# Altium footprint library VGA-Module-PCB-LIB.PcbLib: 25 footprints (part 2 of 2)
Each footprint in its own frame and in the unit in brackets; x right, y up, seen from the top. Pads: shape width x height; smd on the part's side, far side on the other; paste and mask are expansions set on the pad; w line width, h text height; cw(c..) or ccw(c..) is an arc to the next point about the centre after c.
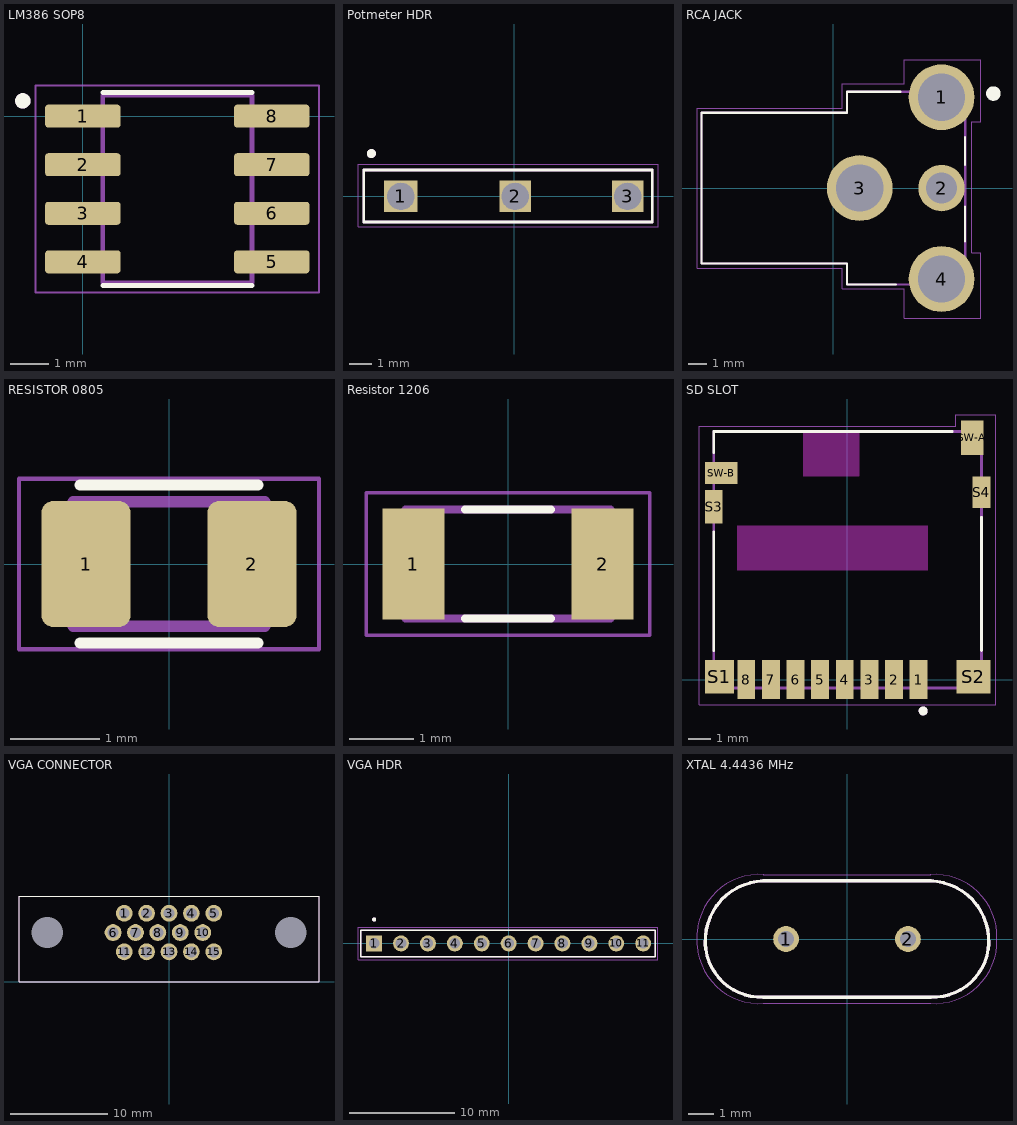
[diagram p1: the footprints below, top view; thin cyan lines are the x and y axes]

## LM386 SOP8 [mm] "LM368 SOP8 package"
pads (8):
  rrect25% 1.97x0.6 smd: 1(0,0) 2(0,-1.27) 3(0,-2.54) 4(0,-3.81) 5(4.94,-3.81) 6(4.94,-2.54) 7(4.94,-1.27) 8(4.94,0)
Top Overlay:
  circle w0.2: c-1.57,0.4 r0.1
  lines w0.127: 0.52,-4.43 4.42,-4.43 ; 0.52,0.62 4.42,0.62
Mechanical 13:
  circle w0.2: c-1.57,0.4 r0.1
  lines w0.127: 0.52,-4.357 4.42,-4.357 4.42,0.547 0.52,0.547 0.52,-4.357
Mechanical 15:
  lines w0.05: -1.235,-4.607 6.175,-4.607 6.175,0.797 -1.235,0.797 -1.235,-4.607
3D body "LM386.STEP": height 1.75, standoff 0, extent -0.457,-4.356 5.537,0.546

## Potmeter HDR [mm] "Potentiometer header"
pads (3):
  rect 1.498x1.398 hole 1.2 mask+0.102: 1(-5.04,0)
  rect 1.398x1.398 hole 1.2: 2(0.04,0) 3(5.04,0)
Top Overlay:
  circle w0.2: c-6.35,1.905 r0.1
  lines w0.127: -6.691,-1.143 -6.691,1.17 6.136,1.17 6.136,-1.143 -6.691,-1.143
Mechanical 13:
  circle w0.2: c-6.35,1.905 r0.1
  lines w0.127: -6.691,-1.143 6.136,-1.143 6.136,1.17 -6.691,1.17 -6.691,-1.143
Mechanical 15:
  lines w0.05: -6.945,-1.347 6.39,-1.347 6.39,1.42 -6.945,1.42 -6.945,-1.347

## RCA JACK [mm] "RCA Jack"
pads (4):
  round 3.616 hole 2.6: 1(5.95,5) 3(1.45,0) 4(5.95,-5)
  round 2.55 hole 1.7: 2(5.95,0)
Top Overlay:
  circle w0.4: c8.8,5.2 r0.2
  lines w0.127: 3.429,-5.3 0.75,-5.3 0.75,-4.15 -7.25,-4.15 -7.25,4.15 0.75,4.15 0.75,5.3 3.683,5.3 ; 7.239,-2.921 7.239,-1.016 ; 7.239,1.27 7.239,2.794
Mechanical 13:
  lines w0.127: -7.25,-4.15 0.75,-4.15 0.75,-5.3 7.25,-5.3 7.25,5.3 0.75,5.3 0.75,4.15 -7.25,4.15 -7.25,-4.15
Mechanical 15:
  lines w0.05: -7.5,-4.4 0.5,-4.4 0.5,-5.55 3.9,-5.55 3.9,-7.15 8.1,-7.15 8.1,-3.55 7.6,-3.55 7.6,3.65 8.1,3.65 8.1,7.05 3.9,7.05 3.9,5.75 0.5,5.75 0.5,4.4 -7.5,4.4 -7.5,-4.4
3D body "CUI_DEVICES_RCJ-014.step": height 12.4, standoff -4.2, extent -7.123,-6.35 7.377,5.25

## RESISTOR 0805 [mm]
pads (2):
  rrect25% 1x1.42 smd: 1(-0.935,0) 2(0.935,0)
Top Overlay:
  lines w0.127: -1,-0.89 1,-0.89 ; -1,0.89 1,0.89
Mechanical 13:
  lines w0.127: -1.08,-0.7 1.08,-0.7 1.08,0.7 -1.08,0.7 -1.08,-0.7
Mechanical 15:
  lines w0.05: -1.69,-0.96 1.69,-0.96 1.69,0.96 -1.69,0.96 -1.69,-0.96
3D body "step_temp.STEP": height 0.6, standoff 0, extent -1,-0.625 1,0.625

## Resistor 1206 [mm]
pads (2):
  rect 0.97x1.73 smd: 1(-1.48,0) 2(1.48,0)
Top Overlay:
  lines w0.127: -0.67,-0.85 0.67,-0.85 ; -0.67,0.85 0.67,0.85
Mechanical 13:
  lines w0.127: -1.6,-0.85 -1.6,0.85 1.6,0.85 1.6,-0.85 -1.6,-0.85
Mechanical 15:
  lines w0.05: -2.215,-1.115 -2.215,1.115 2.215,1.115 2.215,-1.115 -2.215,-1.115
3D body "step_temp.STEP": height 0.65, standoff 0, extent -1.55,-0.8 1.55,0.8

## SD SLOT [mm]
pads (14):
  rect 0.8x1.75 smd: 1(3.2,0) 2(2.1,0) 3(1,0) 4(-0.1,0) 5(-1.2,0) 6(-2.3,0) 7(-3.4,0) 8(-4.5,0)
  rect 1.3x1.5 smd: S1(-5.7,0.125)
  rect 1.5x1.5 smd: S2(5.65,0.125)
  rect 0.8x1.5 smd: S3(-5.95,7.725)
  rect 0.8x1.4 smd: S4(6,8.375)
  rect 1x1.55 smd: SW-A(5.6,10.8)
  rect 1.45x1 smd: SW-B(-5.625,9.225)
Top Overlay:
  circle w0.2: c3.4,-1.4 r0.1
  lines w0.127: -5.95,1.3 -5.95,6.6 ; -5.95,10.15 -5.95,11.075 4.7,11.075 ; 6,1.3 6,7.25
Keep-Out Layer:
  region: 0.55,9.075 -1.95,9.075 -1.95,11.075 0.55,11.075
  region: 3.6,4.875 -4.9,4.875 -4.9,6.875 3.6,6.875
  region: 3.6,4.875 -4.9,4.875 -4.9,6.875 3.6,6.875
  region: 0.55,9.075 -1.95,9.075 -1.95,11.075 0.55,11.075
Mechanical 13:
  circle w0.2: c3.4,-1.4 r0.1
  lines w0.127: -5.95,-0.375 6,-0.375 6,11.075 -5.95,11.075 -5.95,-0.375
Mechanical 15:
  lines w0.05: -6.6,-1.125 -6.6,11.325 4.85,11.325 4.85,11.825 6.65,11.825 6.65,-1.125 -6.6,-1.125
3D body "DM3D-SF--3DModel-STEP-56544.STEP": height 1.55, standoff 0, extent -5.981,-0.391 5.969,11.059

## VGA CONNECTOR [mm]
pads (17):
  round 1.724 hole 1.11: 1(-4.6,7.04) 2(-2.3,7.04) 3(0,7.04) 4(2.3,7.04) 5(4.6,7.04) 6(-5.743,5.06) 7(-3.443,5.06) 8(-1.143,5.06) 9(1.157,5.06) 10(3.457,5.06) 11(-4.6,3.08) 12(-2.3,3.08) 13(0,3.08) 14(2.3,3.08) 15(4.6,3.08)
  round 0 hole 3.2: 17(-12.5,5.06) 17(12.5,5.06)
Top Overlay:
  lines w0.127: -15.4,0 -15.4,8.8 ; -15.367,0 15.367,0 ; -15.367,8.8 15.367,8.8 ; 15.4,0 15.4,8.8
Mechanical 13:
  lines w0.127: -15.4,0 -15.4,8.8 15.4,8.8 15.4,0 -15.4,0
3D body "L77HDE15SD1CH4FVGA--3DModel-STEP-533217.STEP": height 12.77, standoff -3.57, extent -15.659,1.602 15.151,22.402

## VGA HDR [mm] "1x11 pin header"
pads (11):
  rect 1.508x1.508 hole 1: 1(-12.7,0)
  round 1.508 hole 1: 2(-10.16,0) 3(-7.62,0) 4(-5.08,0) 5(-2.54,0) 6(0,0) 7(2.54,0) 8(5.08,0) 9(7.62,0) 10(10.16,0) 11(12.7,0)
Top Overlay:
  circle w0.2: c-12.7,2.25 r0.1
  lines w0.127: -13.97,-1.27 13.843,-1.27 13.843,1.25 -13.97,1.25 -13.97,-1.27
Mechanical 13:
  circle w0.2: c-12.7,2.25 r0.1
  lines w0.127: -13.97,-1.27 13.843,-1.27 13.843,1.25 -13.97,1.25 -13.97,-1.27
Mechanical 15:
  lines w0.05: -14.22,-1.524 14.097,-1.524 14.097,1.5 -14.22,1.5 -14.22,-1.524

## XTAL 4.4436 MHz [mm] "XTAL 4.4436 MHz"
pads (2):
  round 1.03 hole 0.63: 1(-2.44,0) 2(2.44,0)
Top Overlay:
  lines w0.127: -5.675,-0.169 cw(c-3.26,-0.085) -3.344,2.33 ; -5.675,-0.168 ccw(c-3.435,-0.09) -3.357,-2.33 ; -3.35,-2.33 3.35,-2.33 ; -3.35,2.33 3.35,2.33 ; 3.344,2.33 cw(c3.26,-0.085) 5.675,-0.169 ; 3.357,-2.33 ccw(c3.435,-0.09) 5.675,-0.168
Mechanical 13:
  lines w0.127: -5.675,-0.169 cw(c-3.26,-0.085) -3.344,2.33 ; -5.675,-0.168 ccw(c-3.435,-0.09) -3.357,-2.33 ; -3.35,-2.33 3.35,-2.33 ; -3.35,2.33 3.35,2.33 ; 3.344,2.33 cw(c3.26,-0.085) 5.675,-0.169 ; 3.357,-2.33 ccw(c3.435,-0.09) 5.675,-0.168
Mechanical 15:
  lines w0.05: -5.999,-0.264 ccw(c-3.51,-0.09) -3.336,-2.579 ; -6,-0.25 -6,0.25 ; -5.999,0.264 cw(c-3.51,0.09) -3.336,2.579 ; -3.35,-2.58 3.35,-2.58 ; -3.35,2.58 3.35,2.58 ; 3.336,-2.579 ccw(c3.51,-0.09) 5.999,-0.264 ; 3.336,2.579 cw(c3.51,0.09) 5.999,0.264 ; 6,-0.25 6,0.25
3D body "step_temp.STEP": height 13.46, standoff -12.7, extent -5.471,-2.5 5.879,2.5